# EAGLE library part OV2640 (library arducorder-mini)
Omnivision OV2640 2.0MP CMOS Camera Module from ucTronics/ArduCam. The connector is a Molex 0524372471 24-pin 0.5mm pitch FFC connector.
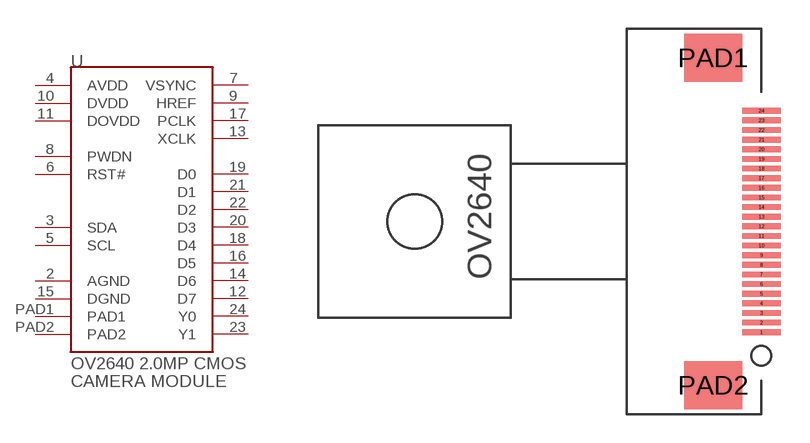
[diagram p26: symbol with the pads of OV2640; footprint OV2640]

Designator prefix -

## OV2640  [OV2640]
2  AGND
3  SDA
4  AVDD
5  SCL
6  RST#
7  VSYNC
8  PWDN
9  HREF
10  DVDD
11  DOVDD
12  D7
13  XCLK
14  D6
15  DGND
16  D5
17  PCLK
18  D4
19  D0
20  D3
21  D1
22  D2
23  Y1
24  Y0
PAD1  PAD1
PAD2  PAD2

## Footprint OV2640 (pad centres in mm)
smd 2 x 0.3: 1 3,-5.75; 2 3,-5.25; 3 3,-4.75; 4 3,-4.25; 5 3,-3.75; 6 3,-3.25; 7 3,-2.75; 8 3,-2.25; 9 3,-1.75; 10 3,-1.25; 11 3,-0.75; 12 3,-0.25; 13 3,0.25; 14 3,0.75; 15 3,1.25; 16 3,1.75; 17 3,2.25; 18 3,2.75; 19 3,3.25; 20 3,3.75; 21 3,4.25; 22 3,4.75; 23 3,5.25; 24 3,5.75
smd 3 x 2.5: PAD1 0.5,8.5; PAD2 0.5,-8.5